# Altium schematic symbol library Schlib_Lontium.SchLib: 1 symbol
Pins are listed as number, name and electrical type; pins without a type are passive.

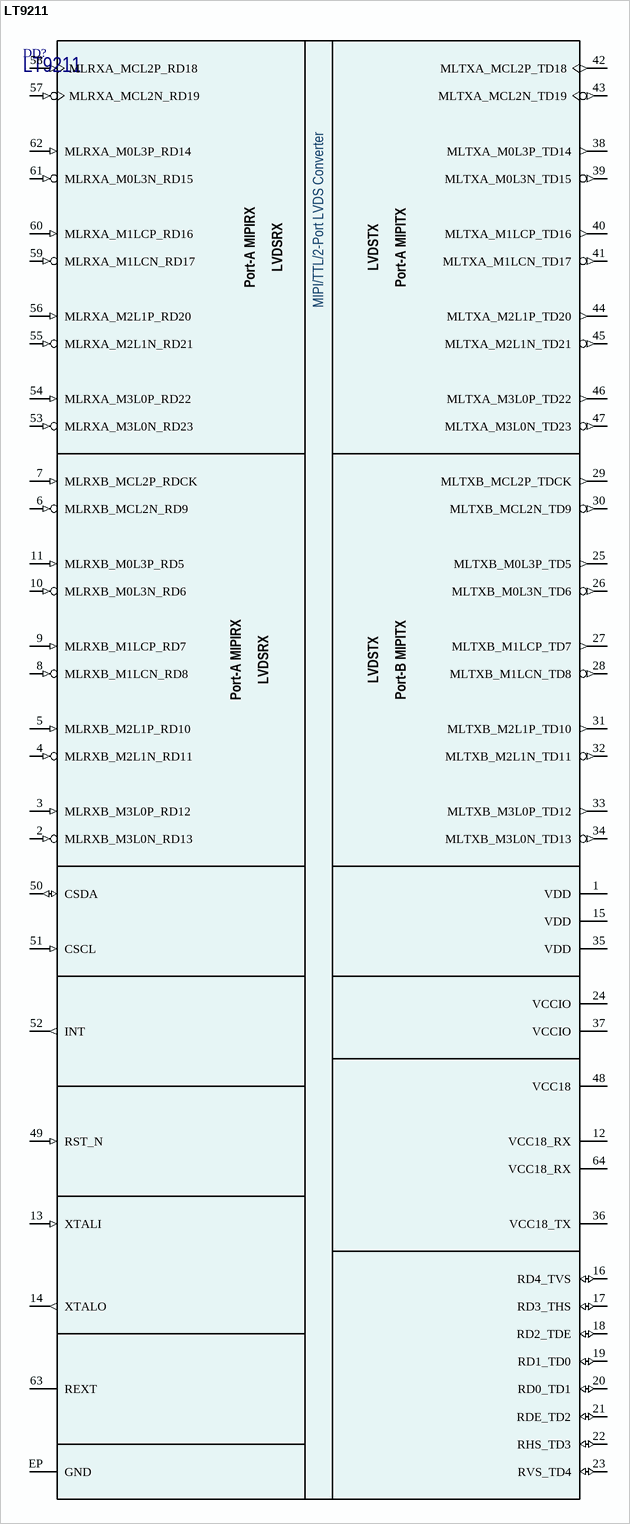
[diagram p0: symbol LT9211]

## LT9211
designator DD?
MIPI/TTL/2-Port LVDS to MIPI/TTL/2-Port LVDS Converter; Manufacturer: Lontium; Part Number: LT9211; Package: QFN-64
footprint QFN64_LONTIUM (Power QFN 7.5mm x 7.5mm, 0.4mm pitch)
pins: 1 VDD (power), 2 MLRXB_M3L0N_RD13 (in), 3 MLRXB_M3L0P_RD12 (in), 4 MLRXB_M2L1N_RD11 (in), 5 MLRXB_M2L1P_RD10 (in), 6 MLRXB_MCL2N_RD9 (in), 7 MLRXB_MCL2P_RDCK (in), 8 MLRXB_M1LCN_RD8 (in), 9 MLRXB_M1LCP_RD7 (in), 10 MLRXB_M0L3N_RD6 (in), 11 MLRXB_M0L3P_RD5 (in), 12 VCC18_RX (power), 13 XTALI (in), 14 XTALO (out), 15 VDD (power), 16 RD4_TVS (io), 17 RD3_THS (io), 18 RD2_TDE (io), 19 RD1_TD0 (io), 20 RD0_TD1 (io), 21 RDE_TD2 (io), 22 RHS_TD3 (io), 23 RVS_TD4 (io), 24 VCCIO (power), 25 MLTXB_M0L3P_TD5 (out), 26 MLTXB_M0L3N_TD6 (out), 27 MLTXB_M1LCP_TD7 (out), 28 MLTXB_M1LCN_TD8 (out), 29 MLTXB_MCL2P_TDCK (out), 30 MLTXB_MCL2N_TD9 (out), 31 MLTXB_M2L1P_TD10 (out), 32 MLTXB_M2L1N_TD11 (out), 33 MLTXB_M3L0P_TD12 (out), 34 MLTXB_M3L0N_TD13 (out), 35 VDD (power), 36 VCC18_TX (power), 37 VCCIO (power), 38 MLTXA_M0L3P_TD14 (out), 39 MLTXA_M0L3N_TD15 (out), 40 MLTXA_M1LCP_TD16 (out), 41 MLTXA_M1LCN_TD17 (out), 42 MLTXA_MCL2P_TD18 (out), 43 MLTXA_MCL2N_TD19 (out), 44 MLTXA_M2L1P_TD20 (out), 45 MLTXA_M2L1N_TD21 (out), 46 MLTXA_M3L0P_TD22 (out), 47 MLTXA_M3L0N_TD23 (out), 48 VCC18 (power), 49 RST_N (in), 50 CSDA (io), 51 CSCL (in), 52 INT (out), 53 MLRXA_M3L0N_RD23 (in), 54 MLRXA_M3L0P_RD22 (in), 55 MLRXA_M2L1N_RD21 (in), 56 MLRXA_M2L1P_RD20 (in), 57 MLRXA_MCL2N_RD19 (in), 58 MLRXA_MCL2P_RD18 (in), 59 MLRXA_M1LCN_RD17 (in), 60 MLRXA_M1LCP_RD16 (in), 61 MLRXA_M0L3N_RD15 (in), 62 MLRXA_M0L3P_RD14 (in), 63 REXT, 64 VCC18_RX (power), EP GND (power)
text: MIPI/TTL/2-Port LVDS Converter; Port-A MIPIRX; LVDSRX; LVDSTX; Port-A MIPITX; Port-B MIPITX